# Altium integrated library Power Supply.IntLib: 1 symbol
Pins are listed as number, name and electrical type; pins without a type are passive.

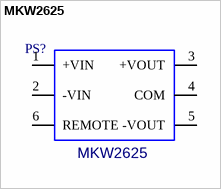
[diagram p0: symbol MKW2625]

## MKW2625
designator PS?, comment value MKW2625  (hidden comment: TMP_US_MKW2625)
Power Supply DC/DC 5V; ECAD_Revsion: 1; Librarian: US; HelpURL: K:\ACCELEDA\PDF Spec Files\POWER SUPPLY\MKW2600.PDF; PartNumber: TMP_US_MKW2625; Power Rating: 5V
footprint MKW2625 (Minmax DC/DC Converter)
pins: 1 +VIN, 2 -VIN, 3 +VOUT, 4 COM, 5 -VOUT, 6 REMOTE